# Altium schematic symbol library SnapEDAsch.SchLib: 1 symbol
Pins are listed as number, name and electrical type; pins without a type are passive.

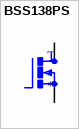
[diagram p0: symbol BSS138PS]

## BSS138PS
designator T
Mosfet Array 2 N-Channel _Dual_ 60V 320mA 420mW Surface Mount 6-TSSOP; MP: BSS138PS; MF: Nexperia USA; Availability: Unavailable; Price: None; Value: *; SnapEDA_Link: https://www.snapeda.com/parts/BSS138PS/Nexperia%20USA%20Inc./view-part/1769543/?ref=snap; Package: SOT-363 Nexperia USA
footprint SOT363
pins: 1 S, 2 G, 6 D